# EAGLE library part 61001621121 (library Board_to_Board_Connectors_rev15d)
WR-PHD 2.54mm Dual SMT Pin Header, 16 Pins =>Code : Con_BTB_PHD_2.54_2_61001621121 <http://katalog.we-online.de/media/images/eican/Con_BTB_PHD_2.54_2_6100xx21121_pf2.jpg> Details see: http://katalog.we-online.de/en/em/610_0xx_211_21 Created 2014-05-29, Karrer Zheng 2014 (C) Würth Elektronik
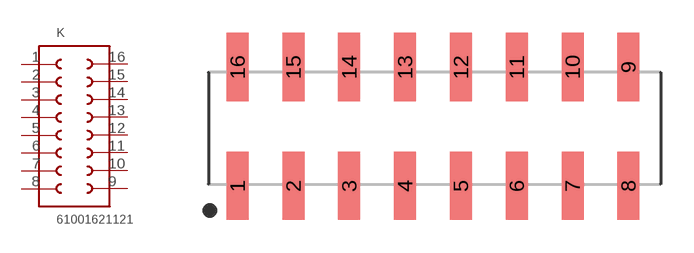
[diagram p78: symbol with the pads of 61001621121; footprint 61001621121]

Designator prefix K

## 61001621121  [61001621121]
1  1  pas
2  2  pas
3  3  pas
4  4  pas
5  5  pas
6  6  pas
7  7  pas
8  8  pas
9  9  pas
10  10  pas
11  11  pas
12  12  pas
13  13  pas
14  14  pas
15  15  pas
16  16  pas

## Footprint 61001621121 (pad centres in mm)
WR-PHD 2.54mm Dual SMT Pin Header, 16 Pins
smd 1 x 3.1: 1 -7.62,-2.7; 2 -5.08,-2.7; 3 -2.54,-2.7; 4 0,-2.7; 5 2.54,-2.7; 6 5.08,-2.7; 7 7.62,-2.7; 8 10.16,-2.7; 9 10.16,2.7; 10 7.62,2.7; 11 5.08,2.7; 12 2.54,2.7; 13 0,2.7; 14 -2.54,2.7; 15 -5.08,2.7; 16 -7.62,2.7